# EAGLE library part 74HC165 (library sj_ic)
74HC165 8-bit Parallel Load Shift Register
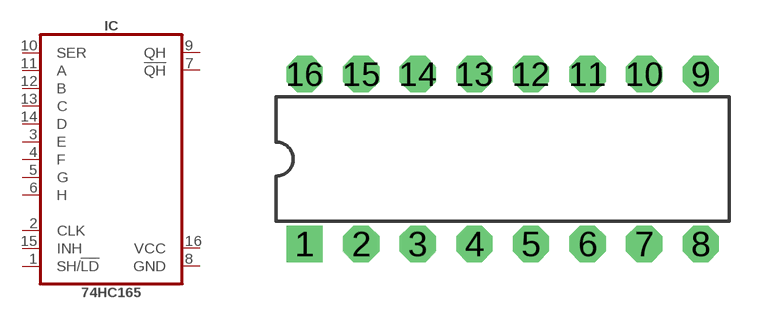
[diagram p1: symbol with the pads of DIP16; footprint DIP16]

Designator prefix IC

## 74HC165  [DIP16]
1  SH/!LD  in
2  CLK  in
3  E  in
4  F  in
5  G  in
6  H  in
7  !QH  out
8  GND  pwr
9  QH  out
10  SER  in
11  A  in
12  B  in
13  C  in
14  D  in
15  INH  in
16  VCC  pwr

## Footprint DIP16 (pad centres in mm)
16-pin Dual In Line Package
drill 0.813 pad 1.626 square: 1 -8.89,-3.81
drill 0.813 pad 1.626 octagon: 2 -6.35,-3.81; 3 -3.81,-3.81; 4 -1.27,-3.81; 5 1.27,-3.81; 6 3.81,-3.81; 7 6.35,-3.81; 8 8.89,-3.81; 9 8.89,3.81; 10 6.35,3.81; 11 3.81,3.81; 12 1.27,3.81; 13 -1.27,3.81; 14 -3.81,3.81; 15 -6.35,3.81; 16 -8.89,3.81